# EAGLE library part AB1815-T3 (library chips_old)
Ultra-low current RTC. 55nA quiescent @ 3V. 1.5-3.6V input.
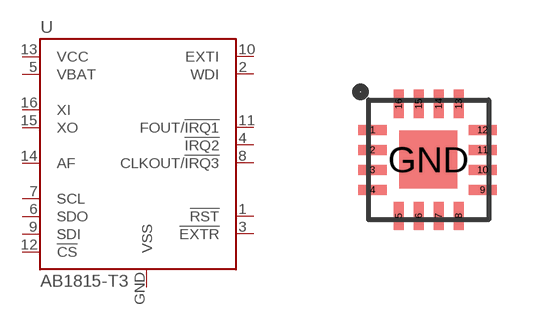
[diagram p80: symbol with the pads of QFN-16-3MM; footprint QFN-16-3MM]

Designator prefix U

## AB1815-T3 (DIGIKEY: 535-11936-1-ND; MANUFACTURER: Abracon; MPN: AB1815-T3)  [QFN-16-3MM]
1  !RST
2  WDI
3  !EXTR
4  !IRQ2
5  VBAT
6  SDO
7  SCL
8  CLKOUT/!IRQ3
9  SDI
10  EXTI
11  FOUT/!IRQ1
12  !CS
13  VCC
14  AF
15  XO
16  XI
GND  VSS

## Footprint QFN-16-3MM (pad centres in mm)
smd 0.7 x 0.25: 1 -1.4,0.75; 2 -1.4,0.25; 3 -1.4,-0.25; 4 -1.4,-0.75; 9 1.35,-0.75; 10 1.35,-0.25; 11 1.35,0.25; 12 1.35,0.75
smd 0.25 x 0.7: 5 -0.75,-1.4; 6 -0.25,-1.4; 7 0.25,-1.4; 8 0.75,-1.4; 13 0.75,1.4; 14 0.25,1.4; 15 -0.25,1.4; 16 -0.75,1.4
smd 1.45 x 1.45: GND 0,0